# Altium footprint library 4960 LED.PcbLib: 1 footprints
Each footprint in its own frame and in the unit in brackets; x right, y up, seen from the top. Pads: shape width x height; smd on the part's side, far side on the other; paste and mask are expansions set on the pad; w line width, h text height; cw(c..) or ccw(c..) is an arc to the next point about the centre after c.
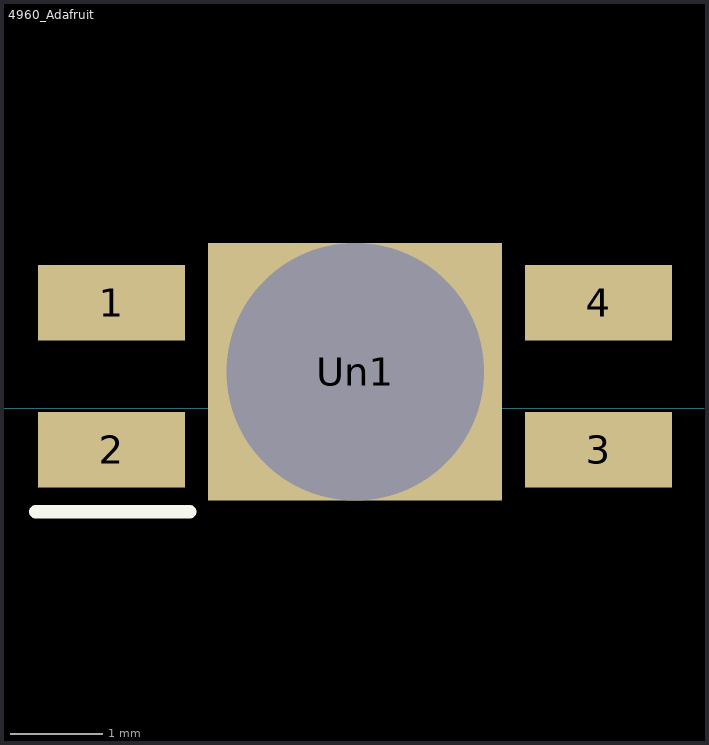
[diagram p0: the footprint, top view; thin cyan lines are the x and y axes]

## 4960_Adafruit [mm]
pads (5):
  rect 1.6x0.82 smd mask+0.051: 1(1.25,1.15) 2(1.25,-0.45) 3(6.55,-0.45) 4(6.55,1.15)
  rect 3.2x2.8 hole 2.8 square paste-3.988 mask+0.051: Un1(3.9,0.4)
Top Overlay:
  lines w0.15: 0.425,-1.125 2.1,-1.125